# Altium footprint library RF Micro Devices Footprints.PcbLib: 31 footprints (part 2 of 2)
Each footprint in its own frame and in the unit in brackets; x right, y up, seen from the top. Pads: shape width x height; smd on the part's side, far side on the other; paste and mask are expansions set on the pad; w line width, h text height; cw(c..) or ccw(c..) is an arc to the next point about the centre after c.
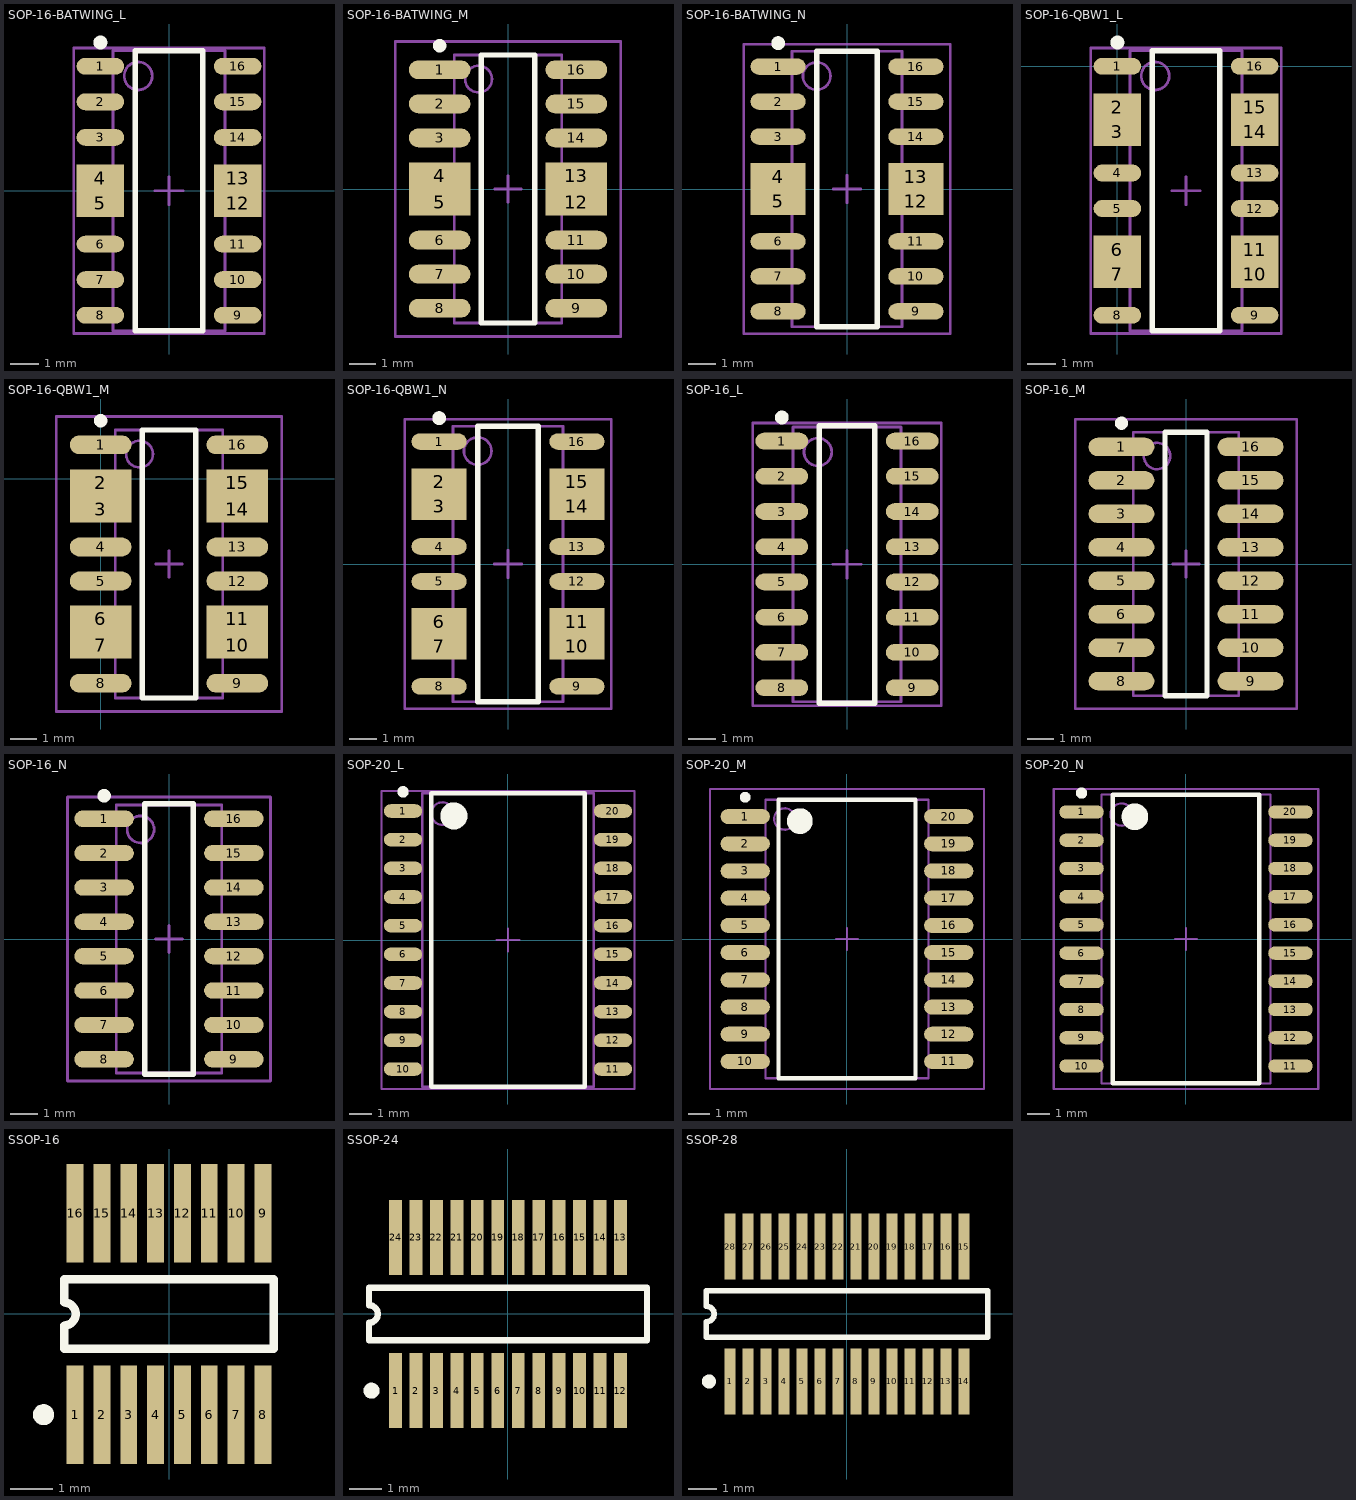
[diagram p1: the footprints below, top view; thin cyan lines are the x and y axes]

## SOP-16-BATWING_L [mm] "16-Pin Small Outline Integrated Circuit 1.27 mm Pitch, IPC High Density"
height 1.5
pads (16):
  oval 1.7x0.6 smd: 1(-2.45,4.445) 2(-2.45,3.175) 3(-2.45,1.905) 6(-2.45,-1.905) 7(-2.45,-3.175) 8(-2.45,-4.445) 9(2.45,-4.445) 10(2.45,-3.175) 11(2.45,-1.905) 14(2.45,1.905) 15(2.45,3.175) 16(2.45,4.445)
  rect 1.7x0.99 smd: 4(-2.45,0.44) 5(-2.45,-0.44) 12(2.45,-0.44) 13(2.45,0.44)
Top Overlay:
  circle w0.25: c-2.45,5.295 r0.125
  lines w0.2: -1.2,-5 -1.2,5 1.2,5 1.2,-5 -1.2,-5
Mechanical 13:
  circle w0.1: c-1.1,4.1 r0.5
  lines w0.1: -2,-5 -2,5 2,5 2,-5 -2,-5
Mechanical 15:
  lines w0.1: -0.5,0 0.5,0 ; 0,-0.5 0,0.5 ; -3.4,-5.1 -3.4,5.1 3.4,5.1 3.4,-5.1 -3.4,-5.1
3D body: height 1.5, standoff 0, extent -2,-5 2,5

## SOP-16-BATWING_M [mm] "16-Pin Small Outline Integrated Circuit 1.27 mm Pitch, IPC Low Density"
height 1.5
pads (16):
  oval 2.3x0.7 smd: 1(-2.55,4.445) 2(-2.55,3.175) 3(-2.55,1.905) 6(-2.55,-1.905) 7(-2.55,-3.175) 8(-2.55,-4.445) 9(2.55,-4.445) 10(2.55,-3.175) 11(2.55,-1.905) 14(2.55,1.905) 15(2.55,3.175) 16(2.55,4.445)
  rect 2.3x0.99 smd: 4(-2.55,0.49) 5(-2.55,-0.49) 12(2.55,-0.49) 13(2.55,0.49)
Top Overlay:
  circle w0.25: c-2.55,5.345 r0.125
  lines w0.2: -1,-5 1,-5 1,5 -1,5 -1,-5
Mechanical 13:
  circle w0.1: c-1.1,4.1 r0.5
  lines w0.1: -2,-5 2,-5 2,5 -2,5 -2,-5
Mechanical 15:
  lines w0.1: -0.5,0 0.5,0 ; 0,-0.5 0,0.5 ; -4.2,-5.5 4.2,-5.5 4.2,5.5 -4.2,5.5 -4.2,-5.5
3D body: height 1.5, standoff 0, extent -2,-5 2,5

## SOP-16-BATWING_N [mm] "16-Pin Small Outline Integrated Circuit 1.27 mm Pitch, IPC Medium Density"
height 1.5
pads (16):
  oval 2x0.6 smd: 1(-2.5,4.445) 2(-2.5,3.175) 3(-2.5,1.905) 6(-2.5,-1.905) 7(-2.5,-3.175) 8(-2.5,-4.445) 9(2.5,-4.445) 10(2.5,-3.175) 11(2.5,-1.905) 14(2.5,1.905) 15(2.5,3.175) 16(2.5,4.445)
  rect 2x0.99 smd: 4(-2.5,0.44) 5(-2.5,-0.44) 12(2.5,-0.44) 13(2.5,0.44)
Top Overlay:
  circle w0.25: c-2.5,5.295 r0.125
  lines w0.2: -1.1,-5 -1.1,5 1.1,5 1.1,-5 -1.1,-5
Mechanical 13:
  circle w0.1: c-1.1,4.1 r0.5
  lines w0.1: -2,-5 -2,5 2,5 2,-5 -2,-5
Mechanical 15:
  lines w0.1: -0.5,0 0.5,0 ; 0,-0.5 0,0.5 ; -3.75,-5.25 -3.75,5.25 3.75,5.25 3.75,-5.25 -3.75,-5.25
3D body: height 1.5, standoff 0, extent -2,-5 2,5

## SOP-16-QBW1_L [mm] "16-Pin Small Outline Integrated Circuit 1.27 mm Pitch, IPC High Density"
height 1.5
pads (16):
  oval 1.7x0.6 smd: 1(0,0) 4(0,-3.81) 5(0,-5.08) 8(0,-8.89) 9(4.9,-8.89) 12(4.9,-5.08) 13(4.9,-3.81) 16(4.9,0)
  rect 1.7x0.99 smd: 2(0,-1.465) 3(0,-2.345) 6(0,-6.545) 7(0,-7.425) 10(4.9,-7.425) 11(4.9,-6.545) 14(4.9,-2.345) 15(4.9,-1.465)
Top Overlay:
  circle w0.25: c0,0.85 r0.125
  lines w0.2: 1.25,-9.445 1.25,0.555 3.65,0.555 3.65,-9.445 1.25,-9.445
Mechanical 13:
  circle w0.1: c1.35,-0.345 r0.5
  lines w0.1: 0.45,-9.445 0.45,0.555 4.45,0.555 4.45,-9.445 0.45,-9.445
Mechanical 15:
  lines w0.1: 1.95,-4.445 2.95,-4.445 ; 2.45,-4.945 2.45,-3.945 ; -0.95,-9.545 -0.95,0.655 5.85,0.655 5.85,-9.545 -0.95,-9.545
3D body: height 1.5, standoff 0, extent 0.45,-9.445 4.45,0.555

## SOP-16-QBW1_M [mm] "16-Pin Small Outline Integrated Circuit 1.27 mm Pitch, IPC Low Density"
height 1.5
pads (16):
  oval 2.3x0.7 smd: 1(0,1.27) 4(0,-2.54) 5(0,-3.81) 8(0,-7.62) 9(5.1,-7.62) 12(5.1,-3.81) 13(5.1,-2.54) 16(5.1,1.27)
  rect 2.3x0.99 smd: 2(0,-0.145) 3(0,-1.125) 6(0,-5.225) 7(0,-6.205) 10(5.1,-6.205) 11(5.1,-5.225) 14(5.1,-1.125) 15(5.1,-0.145)
Top Overlay:
  circle w0.25: c0,2.17 r0.125
  lines w0.2: 1.55,-8.175 3.55,-8.175 3.55,1.825 1.55,1.825 1.55,-8.175
Mechanical 13:
  circle w0.1: c1.45,0.925 r0.5
  lines w0.1: 0.55,-8.175 4.55,-8.175 4.55,1.825 0.55,1.825 0.55,-8.175
Mechanical 15:
  lines w0.1: 2.05,-3.175 3.05,-3.175 ; 2.55,-3.675 2.55,-2.675 ; -1.65,-8.675 6.75,-8.675 6.75,2.325 -1.65,2.325 -1.65,-8.675
3D body: height 1.5, standoff 0, extent 0.55,-8.175 4.55,1.825

## SOP-16-QBW1_N [mm] "16-Pin Small Outline Integrated Circuit 1.27 mm Pitch, IPC Medium Density"
height 1.5
pads (16):
  oval 2x0.6 smd: 1(-2.5,4.445) 4(-2.5,0.635) 5(-2.5,-0.635) 8(-2.5,-4.445) 9(2.5,-4.445) 12(2.5,-0.635) 13(2.5,0.635) 16(2.5,4.445)
  rect 2x0.99 smd: 2(-2.5,2.98) 3(-2.5,2.1) 6(-2.5,-2.1) 7(-2.5,-2.98) 10(2.5,-2.98) 11(2.5,-2.1) 14(2.5,2.1) 15(2.5,2.98)
Top Overlay:
  circle w0.25: c-2.5,5.295 r0.125
  lines w0.2: -1.1,-5 1.1,-5 1.1,5 -1.1,5 -1.1,-5
Mechanical 13:
  circle w0.1: c-1.1,4.1 r0.5
  lines w0.1: -2,-5 2,-5 2,5 -2,5 -2,-5
Mechanical 15:
  lines w0.1: -0.5,0 0.5,0 ; 0,-0.5 0,0.5 ; -3.75,-5.25 3.75,-5.25 3.75,5.25 -3.75,5.25 -3.75,-5.25
3D body: height 1.5, standoff 0, extent -2,-5 2,5

## SOP-16_L [mm] "16-Pin Small Outline Integrated Circuit 1.27 mm Pitch, IPC High Density"
height 1.5
pads (16):
  oval 1.9x0.6 smd: 1(-2.35,4.445) 2(-2.35,3.175) 3(-2.35,1.905) 4(-2.35,0.635) 5(-2.35,-0.635) 6(-2.35,-1.905) 7(-2.35,-3.175) 8(-2.35,-4.445) 9(2.35,-4.445) 10(2.35,-3.175) 11(2.35,-1.905) 12(2.35,-0.635) 13(2.35,0.635) 14(2.35,1.905) 15(2.35,3.175) 16(2.35,4.445)
Top Overlay:
  circle w0.25: c-2.35,5.295 r0.125
  lines w0.2: -1,-5 1,-5 1,5 -1,5 -1,-5
Mechanical 13:
  circle w0.1: c-1.05,4.05 r0.5
  lines w0.1: -1.95,-4.95 1.95,-4.95 1.95,4.95 -1.95,4.95 -1.95,-4.95
Mechanical 15:
  lines w0.1: -0.5,0 0.5,0 ; 0,-0.5 0,0.5 ; -3.4,-5.1 3.4,-5.1 3.4,5.1 -3.4,5.1 -3.4,-5.1
3D body: height 1.5, standoff 0, extent -1.95,-4.95 1.95,4.95

## SOP-16_M [mm] "16-Pin Small Outline Integrated Circuit 1.27 mm Pitch, IPC Low Density"
height 1.5
pads (16):
  oval 2.5x0.7 smd: 1(-2.45,4.445) 2(-2.45,3.175) 3(-2.45,1.905) 4(-2.45,0.635) 5(-2.45,-0.635) 6(-2.45,-1.905) 7(-2.45,-3.175) 8(-2.45,-4.445) 9(2.45,-4.445) 10(2.45,-3.175) 11(2.45,-1.905) 12(2.45,-0.635) 13(2.45,0.635) 14(2.45,1.905) 15(2.45,3.175) 16(2.45,4.445)
Top Overlay:
  circle w0.25: c-2.45,5.345 r0.125
  lines w0.2: -0.8,-5 0.8,-5 0.8,5 -0.8,5 -0.8,-5
Mechanical 13:
  circle w0.1: c-1.1,4.1 r0.5
  lines w0.1: -2,-5 2,-5 2,5 -2,5 -2,-5
Mechanical 15:
  lines w0.1: -0.5,0 0.5,0 ; 0,-0.5 0,0.5 ; -4.2,-5.5 4.2,-5.5 4.2,5.5 -4.2,5.5 -4.2,-5.5
3D body: height 1.5, standoff 0, extent -2,-5 2,5

## SOP-16_N [mm] "16-Pin Small Outline Integrated Circuit 1.27 mm Pitch, IPC Medium Density"
height 1.5
pads (16):
  oval 2.2x0.6 smd: 1(-2.4,4.445) 2(-2.4,3.175) 3(-2.4,1.905) 4(-2.4,0.635) 5(-2.4,-0.635) 6(-2.4,-1.905) 7(-2.4,-3.175) 8(-2.4,-4.445) 9(2.4,-4.445) 10(2.4,-3.175) 11(2.4,-1.905) 12(2.4,-0.635) 13(2.4,0.635) 14(2.4,1.905) 15(2.4,3.175) 16(2.4,4.445)
Top Overlay:
  circle w0.25: c-2.4,5.295 r0.125
  lines w0.2: -0.9,-5 -0.9,5 0.9,5 0.9,-5 -0.9,-5
Mechanical 13:
  circle w0.1: c-1.05,4.05 r0.5
  lines w0.1: -1.95,-4.95 -1.95,4.95 1.95,4.95 1.95,-4.95 -1.95,-4.95
Mechanical 15:
  lines w0.1: -0.5,0 0.5,0 ; 0,-0.5 0,0.5 ; -3.75,-5.25 -3.75,5.25 3.75,5.25 3.75,-5.25 -3.75,-5.25
3D body: height 1.5, standoff 0, extent -1.95,-4.95 1.95,4.95

## SOP-20_L [mm] "20-Pin Small Outline Integrated Circuit 1.27 mm Pitch, IPC High Density"
height 2.34
pads (20):
  oval 1.7x0.6 smd: 1(-4.65,5.715) 2(-4.65,4.445) 3(-4.65,3.175) 4(-4.65,1.905) 5(-4.65,0.635) 6(-4.65,-0.635) 7(-4.65,-1.905) 8(-4.65,-3.175) 9(-4.65,-4.445) 10(-4.65,-5.715) 11(4.65,-5.715) 12(4.65,-4.445) 13(4.65,-3.175) 14(4.65,-1.905) 15(4.65,-0.635) 16(4.65,0.635) 17(4.65,1.905) 18(4.65,3.175) 19(4.65,4.445) 20(4.65,5.715)
Top Overlay:
  circle w0.25: c-4.65,6.565 r0.125
  circle w0.6: c-2.4,5.5 r0.3
  lines w0.2: -3.4,-6.5 -3.4,6.5 3.4,6.5 3.4,-6.5 -3.4,-6.5
Mechanical 13:
  circle w0.1: c-2.9,5.6 r0.5
  lines w0.1: -3.8,-6.5 -3.8,6.5 3.8,6.5 3.8,-6.5 -3.8,-6.5
Mechanical 15:
  lines w0.1: -0.5,0 0.5,0 ; 0,-0.5 0,0.5 ; -5.6,-6.6 -5.6,6.6 5.6,6.6 5.6,-6.6 -5.6,-6.6
3D body: height 2.34, standoff 0, extent -3.8,-6.5 3.8,6.5

## SOP-20_M [mm] "20-Pin Small Outline Integrated Circuit 1.27 mm Pitch, IPC Low Density"
height 2.34
pads (20):
  oval 2.3x0.7 smd: 1(-4.75,5.715) 2(-4.75,4.445) 3(-4.75,3.175) 4(-4.75,1.905) 5(-4.75,0.635) 6(-4.75,-0.635) 7(-4.75,-1.905) 8(-4.75,-3.175) 9(-4.75,-4.445) 10(-4.75,-5.715) 11(4.75,-5.715) 12(4.75,-4.445) 13(4.75,-3.175) 14(4.75,-1.905) 15(4.75,-0.635) 16(4.75,0.635) 17(4.75,1.905) 18(4.75,3.175) 19(4.75,4.445) 20(4.75,5.715)
Top Overlay:
  circle w0.25: c-4.75,6.615 r0.125
  circle w0.6: c-2.2,5.5 r0.3
  lines w0.2: -3.2,-6.5 -3.2,6.5 3.2,6.5 3.2,-6.5 -3.2,-6.5
Mechanical 13:
  circle w0.1: c-2.9,5.6 r0.5
  lines w0.1: -3.8,-6.5 -3.8,6.5 3.8,6.5 3.8,-6.5 -3.8,-6.5
Mechanical 15:
  lines w0.1: -0.5,0 0.5,0 ; 0,-0.5 0,0.5 ; -6.4,-7 -6.4,7 6.4,7 6.4,-7 -6.4,-7
3D body: height 2.34, standoff 0, extent -3.8,-6.5 3.8,6.5

## SOP-20_N [mm] "20-Pin Small Outline Integrated Circuit 1.27 mm Pitch, IPC Medium Density"
height 2.34
pads (20):
  oval 2x0.6 smd: 1(-4.7,5.715) 2(-4.7,4.445) 3(-4.7,3.175) 4(-4.7,1.905) 5(-4.7,0.635) 6(-4.7,-0.635) 7(-4.7,-1.905) 8(-4.7,-3.175) 9(-4.7,-4.445) 10(-4.7,-5.715) 11(4.7,-5.715) 12(4.7,-4.445) 13(4.7,-3.175) 14(4.7,-1.905) 15(4.7,-0.635) 16(4.7,0.635) 17(4.7,1.905) 18(4.7,3.175) 19(4.7,4.445) 20(4.7,5.715)
Top Overlay:
  circle w0.25: c-4.7,6.565 r0.125
  circle w0.6: c-2.3,5.5 r0.3
  lines w0.2: -3.3,-6.5 -3.3,6.5 3.3,6.5 3.3,-6.5 -3.3,-6.5
Mechanical 13:
  circle w0.1: c-2.9,5.6 r0.5
  lines w0.1: -3.8,-6.5 -3.8,6.5 3.8,6.5 3.8,-6.5 -3.8,-6.5
Mechanical 15:
  lines w0.1: -0.5,0 0.5,0 ; 0,-0.5 0,0.5 ; -5.95,-6.75 -5.95,6.75 5.95,6.75 5.95,-6.75 -5.95,-6.75
3D body: height 2.34, standoff 0, extent -3.8,-6.5 3.8,6.5

## SSOP-16 [mm] "SSOP; 16 Leads; Body Width 3.9 mm; Pitch 0.64 mm"
height 1.75
pads (16):
  rect 0.4x2.35 smd: 1(-2.24,-2.4) 2(-1.6,-2.4) 3(-0.96,-2.4) 4(-0.32,-2.4) 5(0.32,-2.4) 6(0.96,-2.4) 7(1.6,-2.4) 8(2.24,-2.4) 9(2.24,2.4) 10(1.6,2.4) 11(0.96,2.4) 12(0.32,2.4) 13(-0.32,2.4) 14(-0.96,2.4) 15(-1.6,2.4) 16(-2.24,2.4)
Top Overlay:
  circle w0.25: c-2.99,-2.4 r0.125
  lines w0.2: -2.5,-0.825 2.5,-0.825 2.5,0.825 -2.5,0.825 -2.5,0.275 cw(c-2.5,0) -2.5,-0.275 -2.5,-0.825

## SSOP-24 [mm] "SSOP; 24 Leads; Body Width 3.9 mm; Pitch 0.64 mm"
height 1.75
pads (24):
  rect 0.4x2.35 smd: 1(-3.52,-2.4) 2(-2.88,-2.4) 3(-2.24,-2.4) 4(-1.6,-2.4) 5(-0.96,-2.4) 6(-0.32,-2.4) 7(0.32,-2.4) 8(0.96,-2.4) 9(1.6,-2.4) 10(2.24,-2.4) 11(2.88,-2.4) 12(3.52,-2.4) 13(3.52,2.4) 14(2.88,2.4) 15(2.24,2.4) 16(1.6,2.4) 17(0.96,2.4) 18(0.32,2.4) 19(-0.32,2.4) 20(-0.96,2.4) 21(-1.6,2.4) 22(-2.24,2.4) 23(-2.88,2.4) 24(-3.52,2.4)
Top Overlay:
  circle w0.25: c-4.27,-2.4 r0.125
  lines w0.2: -4.35,-0.825 -4.35,-0.275 ccw(c-4.35,0) -4.35,0.275 -4.35,0.825 4.35,0.825 4.35,-0.825 -4.35,-0.825

## SSOP-28 [mm] "SSOP; 28 Leads; Body Width 3.9 mm; Pitch 0.64 mm"
height 1.75
pads (28):
  rect 0.4x2.35 smd: 1(-4.16,-2.4) 2(-3.52,-2.4) 3(-2.88,-2.4) 4(-2.24,-2.4) 5(-1.6,-2.4) 6(-0.96,-2.4) 7(-0.32,-2.4) 8(0.32,-2.4) 9(0.96,-2.4) 10(1.6,-2.4) 11(2.24,-2.4) 12(2.88,-2.4) 13(3.52,-2.4) 14(4.16,-2.4) 15(4.16,2.4) 16(3.52,2.4) 17(2.88,2.4) 18(2.24,2.4) 19(1.6,2.4) 20(0.96,2.4) 21(0.32,2.4) 22(-0.32,2.4) 23(-0.96,2.4) 24(-1.6,2.4) 25(-2.24,2.4) 26(-2.88,2.4) 27(-3.52,2.4) 28(-4.16,2.4)
Top Overlay:
  circle w0.25: c-4.91,-2.4 r0.125
  lines w0.2: -5,-0.825 -5,-0.275 ccw(c-5,0) -5,0.275 -5,0.825 5,0.825 5,-0.825 -5,-0.825